# Altium schematic symbol library RES_3K_805.SchLib: 1 symbol
Pins are listed as number, name and electrical type; pins without a type are passive.

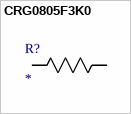
[diagram p0: symbol CRG0805F3K0]

## CRG0805F3K0
designator R?
No Description Available; Mfr_Name: TE Connectivity
footprint RES_CRG0805_TEC
pins: 1, 2